# Altium integrated library DS18B20Z_.IntLib: 1 symbol
Pins are listed as number, name and electrical type; pins without a type are passive.

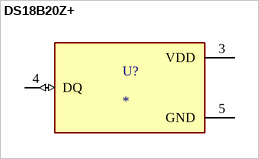
[diagram p0: symbol DS18B20Z+]

## DS18B20Z+
designator U?
Programmable Resolution 1-Wire Digital Thermometer; MF: Analog Devices; MP: DS18B20Z+; Purchase-URL: https://pricing.snapeda.com/search/part/DS18B20Z+/?ref=eda; Package: SOIC-8 Maxim; Value: *; Check_prices: https://www.snapeda.com/parts/DS18B20Z+/Analog+Devices/view-part/?ref=eda; Price: None; SnapEDA_Link: https://www.snapeda.com/parts/DS18B20Z+/Analog+Devices/view-part/?ref=snap; Availability: In Stock
footprint SOIC127P600X175-8N
pins: 3 VDD (power), 4 DQ (io), 5 GND (power)